# Altium schematic symbol library RES-THT.SchLib: 1 symbol
Pins are listed as number, name and electrical type; pins without a type are passive.

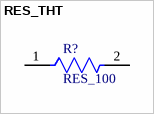
[diagram p0: symbol RES_THT]

## RES_THT
designator R?, comment RES_100
footprint RES_3W
footprint RES_5W_Ceramic_Yageo
footprint FP-SQP500-MFG
footprint RES-2W
footprint RES-2W_2
footprint RES_10W
footprint RES_5W_VERT
pins: 1, 2